# Altium schematic symbol library CONN_RECT.SchLib: 6 symbols
Pins are listed as number, name and electrical type; pins without a type are passive.

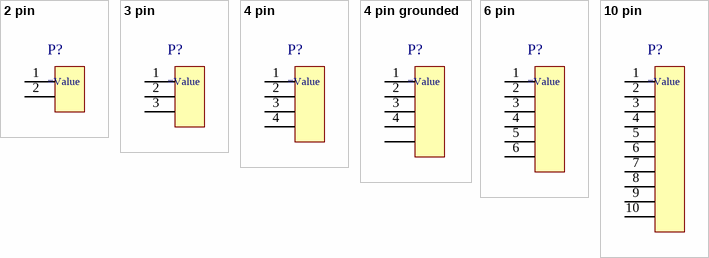
[diagram p0: symbols 2 pin to 10 pin]

## 2 pin
designator P?
2 pin connector
footprint B2B-PH-K-S
footprint S2B-PH-K-S
pins: 1, 2

## 3 pin
designator P?
3 pin connector
footprint SM03B-SRSS-TB
pins: 1, 2, 3

## 4 pin
designator P?
4 pin connector
footprint WK-04 (WK connector 4 pins)
pins: 1, 2, 3, 4

## 4 pin grounded
designator P?
4 pin connector
footprint Molex_5037630491
pins: 1, 2, 3, 4, 5

## 6 pin
designator P?
6 pin connector
footprint WK-06 (WK connector 6 pins)
pins: 1, 2, 3, 4, 5, 6

## 10 pin
designator P?
10 pin connector
footprint WB-10 (WR connector 10 pins)
pins: 1, 2, 3, 4, 5, 6, 7, 8, 9, 10